# Altium footprint library Acoustics.PcbLib: 1 footprints
Each footprint in its own frame and in the unit in brackets; x right, y up, seen from the top. Pads: shape width x height; smd on the part's side, far side on the other; paste and mask are expansions set on the pad; w line width, h text height; cw(c..) or ccw(c..) is an arc to the next point about the centre after c.
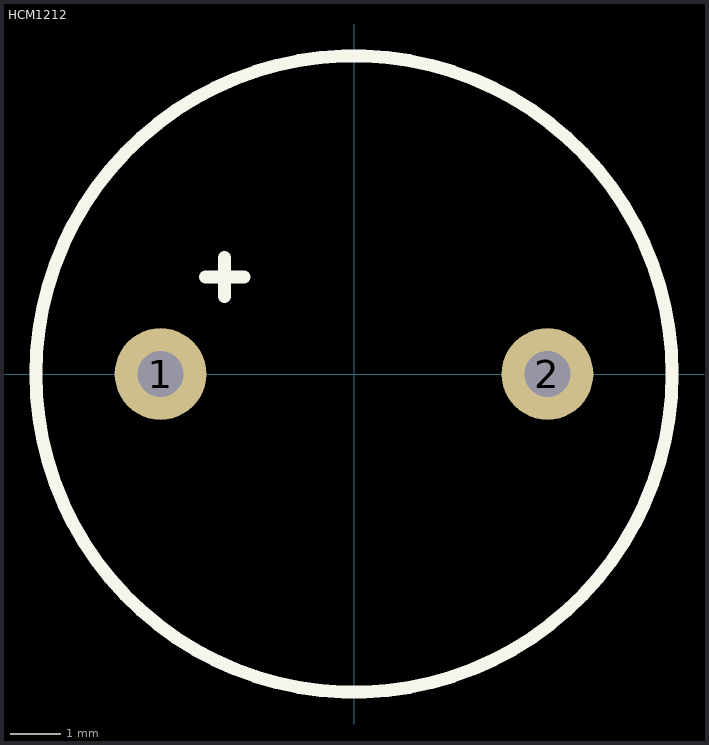
[diagram p0: the footprint, top view; thin cyan lines are the x and y axes]

## HCM1212 [mm]
pads (2):
  round 1.8 hole 0.9: 1(-3.8,0) 2(3.8,0)
Top Overlay:
  circle w0.254: c0,0 r6.25
  lines w0.254: -2.921,1.905 -2.159,1.905 ; -2.54,1.524 -2.54,2.286